# Altium integrated library Silicon Labs Clocks and Oscillators.IntLib: 678 symbols (part 5 of 45)
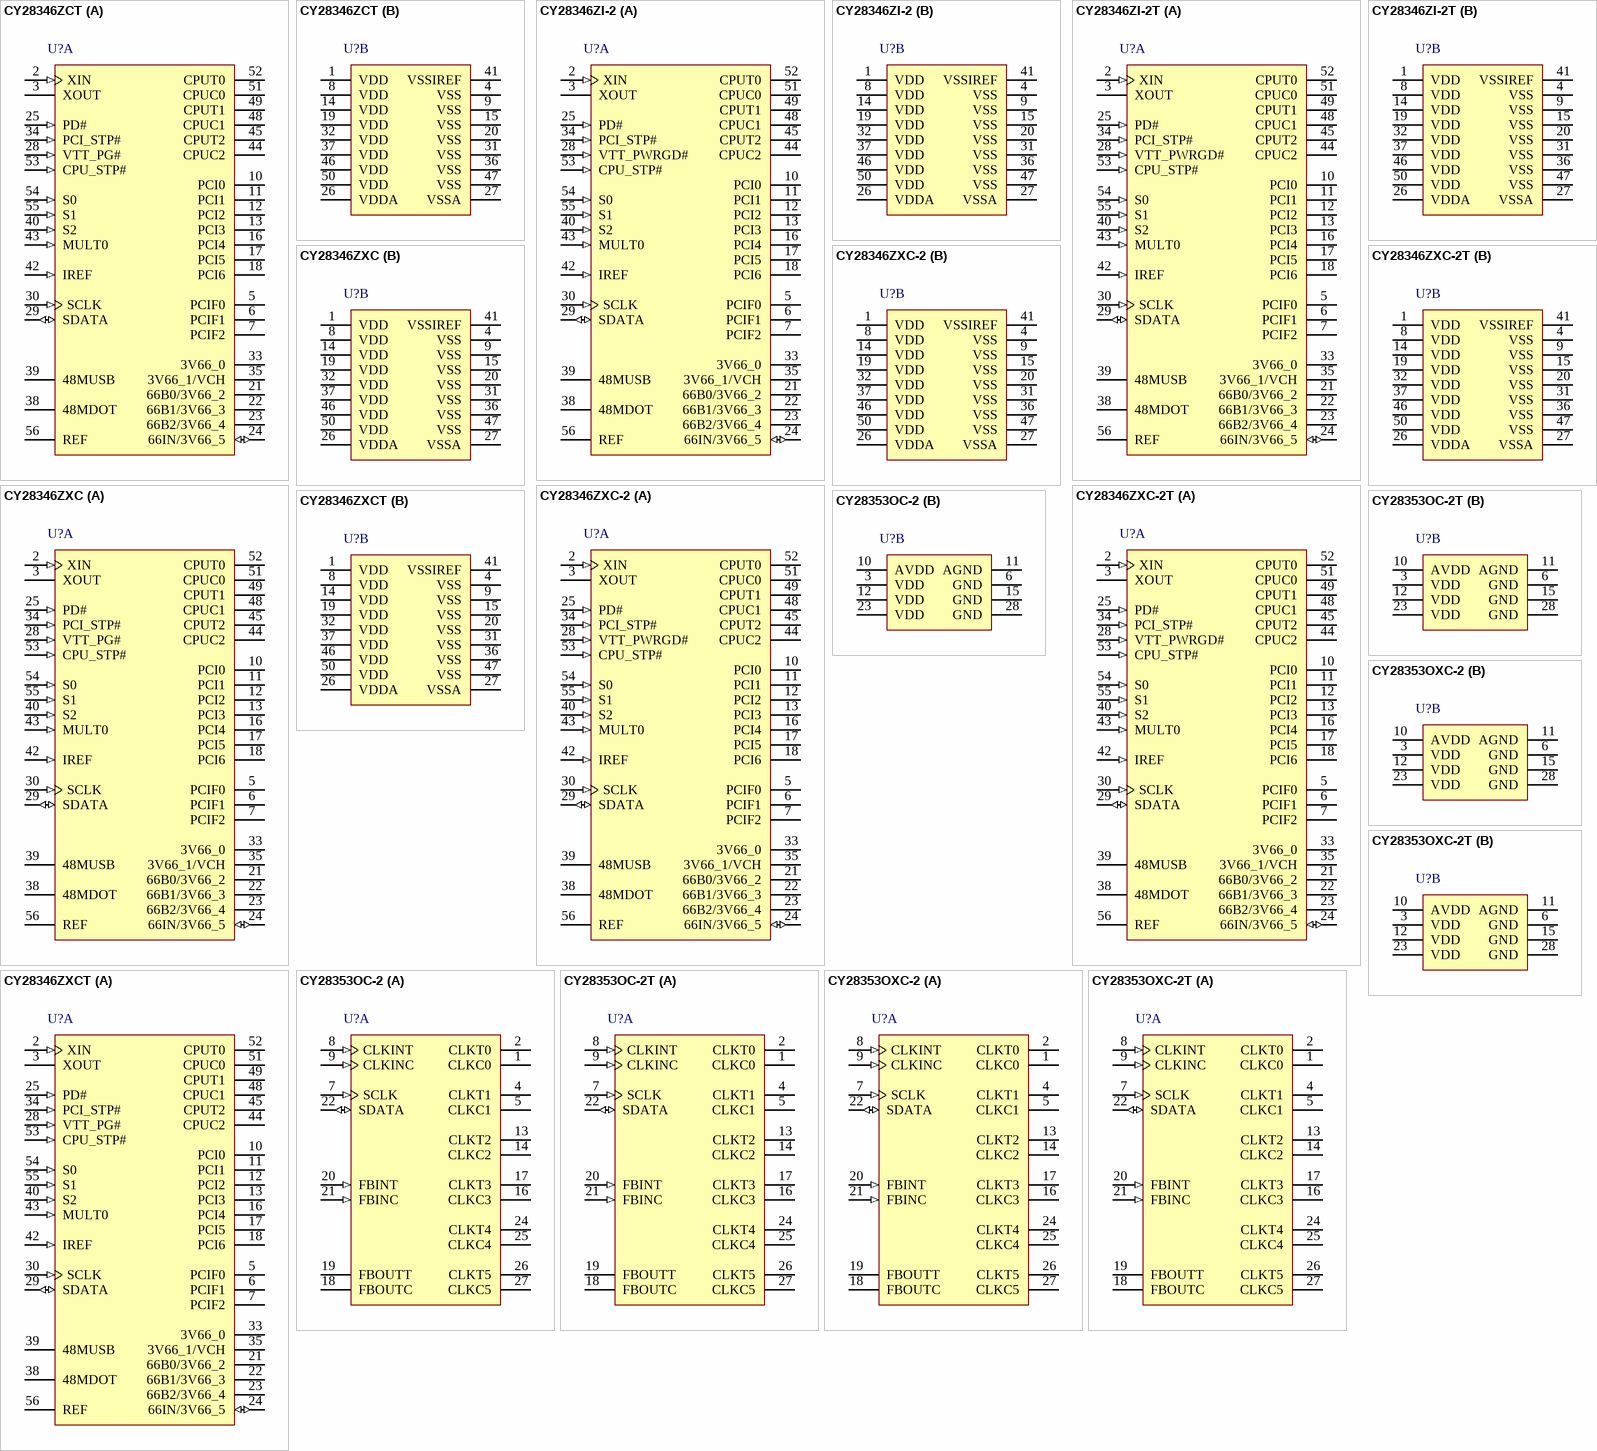
[diagram p48: symbols CY28346ZCT to CY28353OXC-2T]

## CY28353OC-2
designator U?
Differential Clock Buffer / Driver, 2.5 V, 60 to 170 MHz Output, 0 to 70 degC, 28-pin SOP; Manufacturer: Silicon Labs; PartNumber: CY28353OC-2; Output Format: HCSL; Reference Inputs: 2; VDD: 2.5 V; Sub-Family: Clock Generators; DatasheetVersion: Rev. *B; PackageReference: SSOP-28; PackageDescription: 28-Pin Shrink Small-Outline Package, Body 10.2 x 5.3 mm, Pitch 0.65 mm; Output Frequency (MHz): 60 to 170; Mounting Technology: Surface Mount; ComponentLink1Description: Manufacturer URL; ComponentLink1URL: http://www.silabs.com/; ComponentLink2Description: Datasheet; ComponentLink2URL: http://www.silabs.com/Support%20Documents/TechnicalDocs/CY28353-2.pdf; ComponentLink3Description: Package Specification; ComponentLink3URL: http://www.silabs.com/Support%20Documents/TechnicalDocs/W256.pdf
footprint SLAB-SSOP-28_N (SOP, 28-Leads, Body 10.4x5.6mm, Pitch 0.65mm, IPC Medium Density)
footprint SLAB-SSOP-28_L (SOP, 28-Leads, Body 10.4x5.6mm, Pitch 0.65mm, IPC High Density)
footprint SLAB-SSOP-28_M (SOP, 28-Leads, Body 10.4x5.6mm, Pitch 0.65mm, IPC Low Density)
part A pins: 1 CLKC0 (hiz) "Clock Outputs.", 2 CLKT0 (hiz) "Clock Outputs.", 4 CLKT1 (hiz) "Clock Outputs.", 5 CLKC1 (hiz) "Clock Outputs.", 7 SCLK (in) "Serial Clock Input.", 8 CLKINT (in) "Complementary Clock Input.", 9 CLKINC (in) "Complementary Clock Input.", 13 CLKT2 (hiz) "Clock Outputs.", 14 CLKC2 (hiz) "Clock Outputs.", 16 CLKC3 (hiz) "Clock Outputs.", 17 CLKT3 (hiz) "Clock Outputs.", 18 FBOUTC (hiz) "Feedback Clock Output.", 19 FBOUTT (hiz) "Feedback Clock Output.", 20 FBINT (in) "Feedback Clock Input. Connect to FBOUTT for accessing the PLL.", 21 FBINC (in) "Feedback Clock Input. Connect to FBOUTC for accessing the PLL.", 22 SDATA (io) "Serial Data Input.", 24 CLKT4 (hiz) "Clock Outputs.", 25 CLKC4 (hiz) "Clock Outputs.", 26 CLKT5 (hiz) "Clock Outputs.", 27 CLKC5 (hiz) "Clock Outputs."
part B pins: 3 VDD (power) "2.5V Power Supply for Logic.", 6 GND (power) "Ground.", 10 AVDD (power) "2.5V Power Supply for PLL.", 11 AGND (power) "Analog Ground for PLL.", 12 VDD (power) "2.5V Power Supply for Logic.", 15 GND (power) "Ground.", 23 VDD (power) "2.5V Power Supply for Logic.", 28 GND (power) "Ground."

## CY28353OC-2T
designator U?
Differential Clock Buffer / Driver, 2.5 V, 60 to 170 MHz Output, 0 to 70 degC, 28-pin SOP, Tape and Reel; Manufacturer: Silicon Labs; PartNumber: CY28353OC-2T; Output Format: HCSL; Phase Jitter (RMS): > 1 ps; Reference Inputs: 2; VDD: 2.5 V; Sub-Family: Clock Generators; DatasheetVersion: Rev. *B; PackageReference: SSOP-28; PackageDescription: 28-Pin Shrink Small-Outline Package, Body 10.2 x 5.3 mm, Pitch 0.65 mm; Output Frequency (MHz): 60 to 170; Packing: Tape and Reel; Mounting Technology: Surface Mount; ComponentLink1Description: Manufacturer URL; ComponentLink1URL: http://www.silabs.com/; ComponentLink2Description: Datasheet; ComponentLink2URL: http://www.silabs.com/Support%20Documents/TechnicalDocs/CY28353-2.pdf; ComponentLink3Description: Package Specification; ComponentLink3URL: http://www.silabs.com/Support%20Documents/TechnicalDocs/W256.pdf
footprint SLAB-SSOP-28_N (SOP, 28-Leads, Body 10.4x5.6mm, Pitch 0.65mm, IPC Medium Density)
footprint SLAB-SSOP-28_L (SOP, 28-Leads, Body 10.4x5.6mm, Pitch 0.65mm, IPC High Density)
footprint SLAB-SSOP-28_M (SOP, 28-Leads, Body 10.4x5.6mm, Pitch 0.65mm, IPC Low Density)
part A pins: 1 CLKC0 (hiz) "Clock Outputs.", 2 CLKT0 (hiz) "Clock Outputs.", 4 CLKT1 (hiz) "Clock Outputs.", 5 CLKC1 (hiz) "Clock Outputs.", 7 SCLK (in) "Serial Clock Input.", 8 CLKINT (in) "Complementary Clock Input.", 9 CLKINC (in) "Complementary Clock Input.", 13 CLKT2 (hiz) "Clock Outputs.", 14 CLKC2 (hiz) "Clock Outputs.", 16 CLKC3 (hiz) "Clock Outputs.", 17 CLKT3 (hiz) "Clock Outputs.", 18 FBOUTC (hiz) "Feedback Clock Output.", 19 FBOUTT (hiz) "Feedback Clock Output.", 20 FBINT (in) "Feedback Clock Input. Connect to FBOUTT for accessing the PLL.", 21 FBINC (in) "Feedback Clock Input. Connect to FBOUTC for accessing the PLL.", 22 SDATA (io) "Serial Data Input.", 24 CLKT4 (hiz) "Clock Outputs.", 25 CLKC4 (hiz) "Clock Outputs.", 26 CLKT5 (hiz) "Clock Outputs.", 27 CLKC5 (hiz) "Clock Outputs."
part B pins: 3 VDD (power) "2.5V Power Supply for Logic.", 6 GND (power) "Ground.", 10 AVDD (power) "2.5V Power Supply for PLL.", 11 AGND (power) "Analog Ground for PLL.", 12 VDD (power) "2.5V Power Supply for Logic.", 15 GND (power) "Ground.", 23 VDD (power) "2.5V Power Supply for Logic.", 28 GND (power) "Ground."

## CY28353OXC-2
designator U?
Differential Clock Buffer / Driver, 2.5 V, 60 to 170 MHz Output, 0 to 70 degC, 28-pin SOP; Manufacturer: Silicon Labs; PartNumber: CY28353OXC-2; Output Format: HCSL; Reference Inputs: 2; VDD: 2.5 V; Sub-Family: Clock Generators; DatasheetVersion: Rev. *B; PackageReference: SSOP-28; PackageDescription: 28-Pin Shrink Small-Outline Package, Body 10.2 x 5.3 mm, Pitch 0.65 mm; Supplier 1: Digi-Key; Supplier Part Number 1: CY28353OXC-2-ND; Supplier 2: Mouser; Supplier Part Number 2: 634-CY28353OXC-2; Output Frequency (MHz): 60 to 170; Mounting Technology: Surface Mount; ComponentLink1Description: Manufacturer URL; ComponentLink1URL: http://www.silabs.com/; ComponentLink2Description: Datasheet; ComponentLink2URL: http://www.silabs.com/Support%20Documents/TechnicalDocs/CY28353-2.pdf; ComponentLink3Description: Package Specification; ComponentLink3URL: http://www.silabs.com/Support%20Documents/TechnicalDocs/W256.pdf
footprint SLAB-SSOP-28_N (SOP, 28-Leads, Body 10.4x5.6mm, Pitch 0.65mm, IPC Medium Density)
footprint SLAB-SSOP-28_L (SOP, 28-Leads, Body 10.4x5.6mm, Pitch 0.65mm, IPC High Density)
footprint SLAB-SSOP-28_M (SOP, 28-Leads, Body 10.4x5.6mm, Pitch 0.65mm, IPC Low Density)
part A pins: 1 CLKC0 (hiz) "Clock Outputs.", 2 CLKT0 (hiz) "Clock Outputs.", 4 CLKT1 (hiz) "Clock Outputs.", 5 CLKC1 (hiz) "Clock Outputs.", 7 SCLK (in) "Serial Clock Input.", 8 CLKINT (in) "Complementary Clock Input.", 9 CLKINC (in) "Complementary Clock Input.", 13 CLKT2 (hiz) "Clock Outputs.", 14 CLKC2 (hiz) "Clock Outputs.", 16 CLKC3 (hiz) "Clock Outputs.", 17 CLKT3 (hiz) "Clock Outputs.", 18 FBOUTC (hiz) "Feedback Clock Output.", 19 FBOUTT (hiz) "Feedback Clock Output.", 20 FBINT (in) "Feedback Clock Input. Connect to FBOUTT for accessing the PLL.", 21 FBINC (in) "Feedback Clock Input. Connect to FBOUTC for accessing the PLL.", 22 SDATA (io) "Serial Data Input.", 24 CLKT4 (hiz) "Clock Outputs.", 25 CLKC4 (hiz) "Clock Outputs.", 26 CLKT5 (hiz) "Clock Outputs.", 27 CLKC5 (hiz) "Clock Outputs."
part B pins: 3 VDD (power) "2.5V Power Supply for Logic.", 6 GND (power) "Ground.", 10 AVDD (power) "2.5V Power Supply for PLL.", 11 AGND (power) "Analog Ground for PLL.", 12 VDD (power) "2.5V Power Supply for Logic.", 15 GND (power) "Ground.", 23 VDD (power) "2.5V Power Supply for Logic.", 28 GND (power) "Ground."

## CY28353OXC-2T
designator U?
Differential Clock Buffer / Driver, 2.5 V, 60 to 170 MHz Output, 0 to 70 degC, 28-pin SOP, Tape and Reel; Manufacturer: Silicon Labs; PartNumber: CY28353OXC-2T; Output Format: HCSL; Phase Jitter (RMS): > 1 ps; Reference Inputs: 2; VDD: 2.5 V; Sub-Family: Clock Generators; DatasheetVersion: Rev. *B; PackageReference: SSOP-28; PackageDescription: 28-Pin Shrink Small-Outline Package, Body 10.2 x 5.3 mm, Pitch 0.65 mm; Supplier 1: Digi-Key; Supplier Part Number 1: CY28353OXC-2T-ND; Supplier 2: Mouser; Supplier Part Number 2: 634-CY28353OXC-2T; Output Frequency (MHz): 60 to 170; Packing: Tape and Reel; Mounting Technology: Surface Mount; ComponentLink1Description: Manufacturer URL; ComponentLink1URL: http://www.silabs.com/; ComponentLink2Description: Datasheet; ComponentLink2URL: http://www.silabs.com/Support%20Documents/TechnicalDocs/CY28353-2.pdf; ComponentLink3Description: Package Specification; ComponentLink3URL: http://www.silabs.com/Support%20Documents/TechnicalDocs/W256.pdf
footprint SLAB-SSOP-28_N (SOP, 28-Leads, Body 10.4x5.6mm, Pitch 0.65mm, IPC Medium Density)
footprint SLAB-SSOP-28_L (SOP, 28-Leads, Body 10.4x5.6mm, Pitch 0.65mm, IPC High Density)
footprint SLAB-SSOP-28_M (SOP, 28-Leads, Body 10.4x5.6mm, Pitch 0.65mm, IPC Low Density)
part A pins: 1 CLKC0 (hiz) "Clock Outputs.", 2 CLKT0 (hiz) "Clock Outputs.", 4 CLKT1 (hiz) "Clock Outputs.", 5 CLKC1 (hiz) "Clock Outputs.", 7 SCLK (in) "Serial Clock Input.", 8 CLKINT (in) "Complementary Clock Input.", 9 CLKINC (in) "Complementary Clock Input.", 13 CLKT2 (hiz) "Clock Outputs.", 14 CLKC2 (hiz) "Clock Outputs.", 16 CLKC3 (hiz) "Clock Outputs.", 17 CLKT3 (hiz) "Clock Outputs.", 18 FBOUTC (hiz) "Feedback Clock Output.", 19 FBOUTT (hiz) "Feedback Clock Output.", 20 FBINT (in) "Feedback Clock Input. Connect to FBOUTT for accessing the PLL.", 21 FBINC (in) "Feedback Clock Input. Connect to FBOUTC for accessing the PLL.", 22 SDATA (io) "Serial Data Input.", 24 CLKT4 (hiz) "Clock Outputs.", 25 CLKC4 (hiz) "Clock Outputs.", 26 CLKT5 (hiz) "Clock Outputs.", 27 CLKC5 (hiz) "Clock Outputs."
part B pins: 3 VDD (power) "2.5V Power Supply for Logic.", 6 GND (power) "Ground.", 10 AVDD (power) "2.5V Power Supply for PLL.", 11 AGND (power) "Analog Ground for PLL.", 12 VDD (power) "2.5V Power Supply for Logic.", 15 GND (power) "Ground.", 23 VDD (power) "2.5V Power Supply for Logic.", 28 GND (power) "Ground."

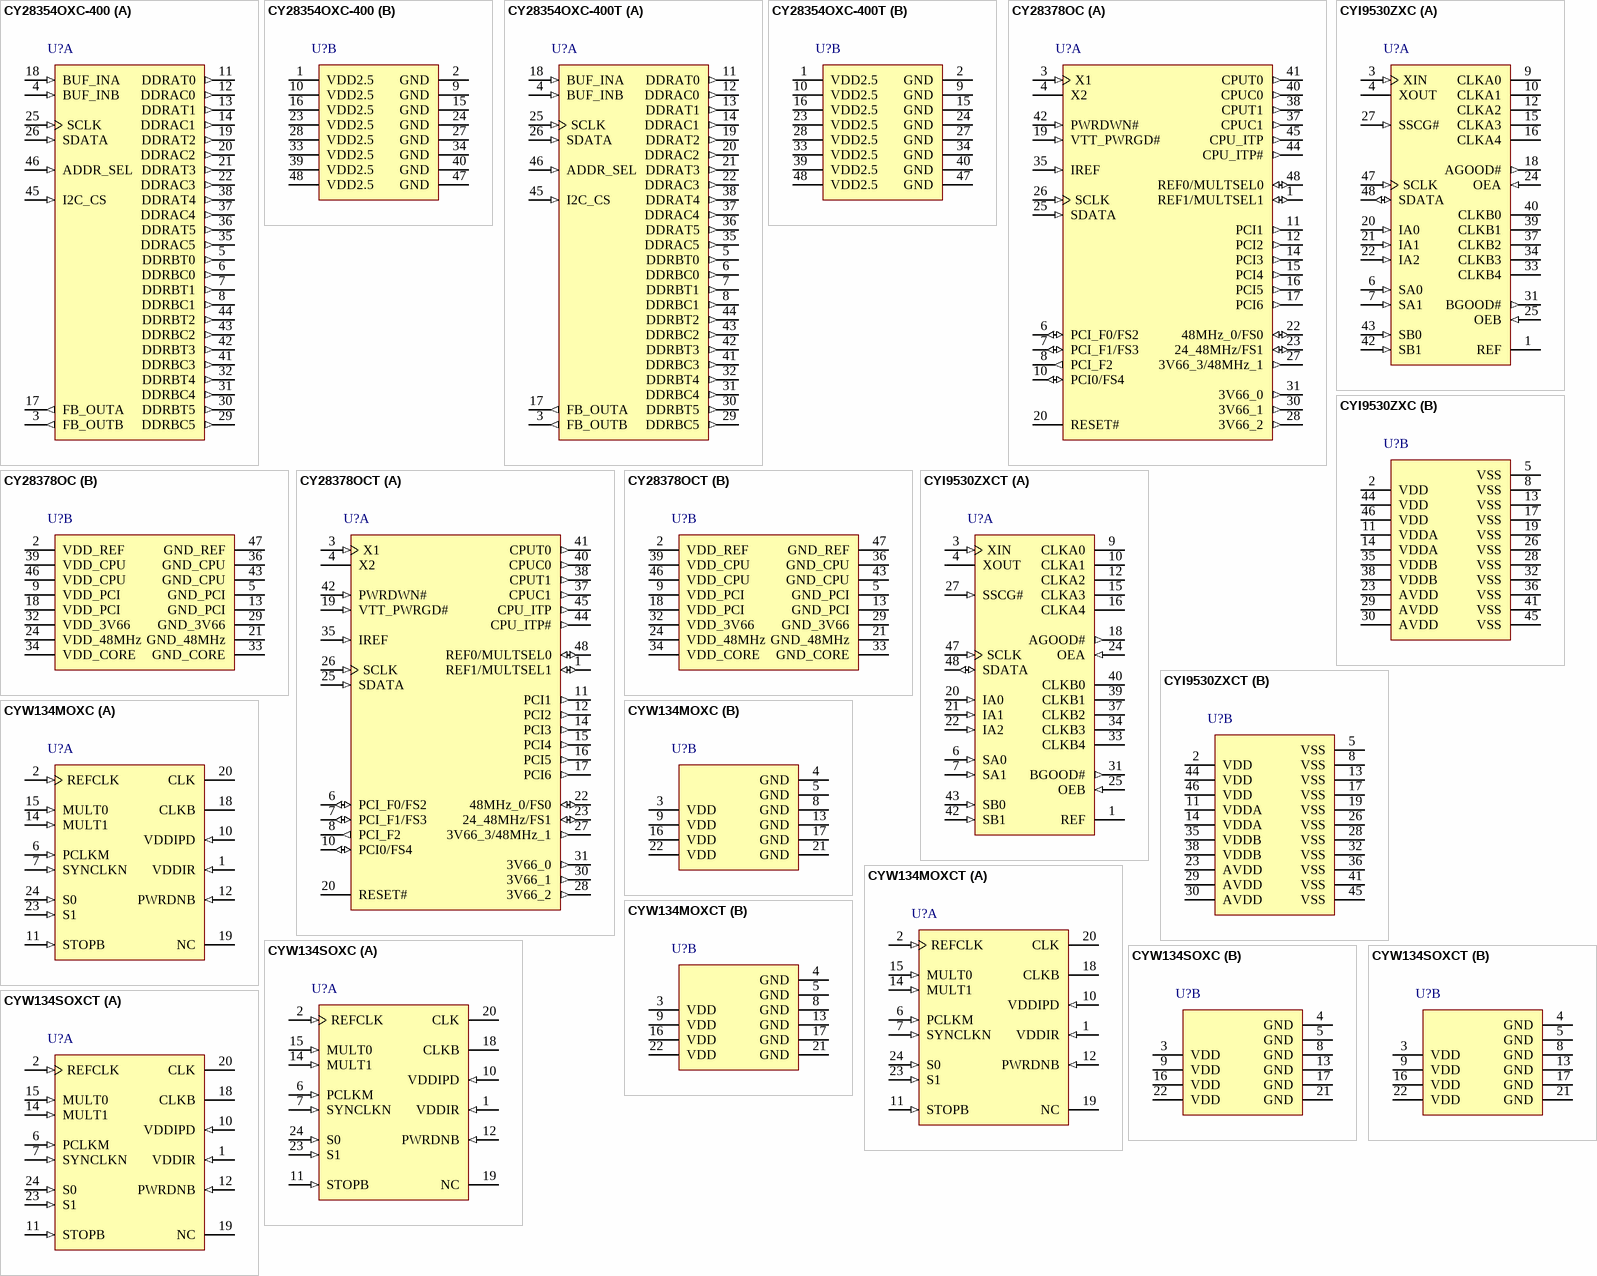
[diagram p5: symbols CY28354OXC-400 to CYW134SOXCT]

## CY28354OXC-400
designator U?
24 Output Buffer for 4-DDR DIMMS for VIA Chipsets Support, 2.5 V, 60 to 210 MHz Output, 0 to 85 degC, 48-pin SOP; Manufacturer: Silicon Labs; PartNumber: CY28354OXC-400; Output Format: HCSL; Reference Inputs: 2; VDD: 2.5 V; Sub-Family: Clock Generators; DatasheetVersion: Rev. *B; PackageReference: SSOP-48; PackageDescription: 48-Pin Shrink Small-Outline Package, Body 15.875 x 7.51 mm, Pitch 0.635 mm; Supplier 1: Digi-Key; Supplier Part Number 1: CY28354OXC-400-ND; Supplier 2: Mouser; Supplier Part Number 2: 634-CY28354OXC-400; Output Frequency (MHz): 60 to 210; Mounting Technology: Surface Mount; ComponentLink1Description: Manufacturer URL; ComponentLink1URL: http://www.silabs.com/; ComponentLink2Description: Datasheet; ComponentLink2URL: http://www.silabs.com/Support%20Documents/TechnicalDocs/CY28354-400.pdf; ComponentLink3Description: Package Specification; ComponentLink3URL: http://www.silabs.com/Support%20Documents/TechnicalDocs/W255.pdf
footprint SLAB-SSOP-48_N (SOP, 48-Leads, Body 16x7.6mm, Pitch 0.635mm, IPC Medium Density)
footprint SLAB-SSOP-48_L (SOP, 48-Leads, Body 16x7.6mm, Pitch 0.635mm, IPC High Density)
footprint SLAB-SSOP-48_M (SOP, 48-Leads, Body 16x7.6mm, Pitch 0.635mm, IPC Low Density)
part A pins: 3 FB_OUTB (out) "Feedback clock for chipset.", 4 BUF_INB (in) "Reference input from chipset. 2.5V input. Internal pull-down", 5 DDRBT0 (out) "Clock outputs. These outputs provide copies of BUF_INA and BUF_INB, respectively.", 6 DDRBC0 (out) "Clock outputs. These outputs provide complementary copies of BUF_INA and BUF_INB, respectively.", 7 DDRBT1 (out) "Clock outputs. These outputs provide copies of BUF_INA and BUF_INB, respectively.", 8 DDRBC1 (out) "Clock outputs. These outputs provide complementary copies of BUF_INA and BUF_INB, respectively.", 11 DDRAT0 (out) "Clock outputs. These outputs provide copies of BUF_INA and BUF_INB, respectively.", 12 DDRAC0 (out) "Clock outputs. These outputs provide complementary copies of BUF_INA and BUF_INB, respectively.", 13 DDRAT1 (out) "Clock outputs. These outputs provide copies of BUF_INA and BUF_INB, respectively.", 14 DDRAC1 (out) "Clock outputs. These outputs provide complementary copies of BUF_INA and BUF_INB, respectively.", 17 FB_OUTA (out) "Feedback clock for chipset.", 18 BUF_INA (in) "Reference input from chipset. 2.5V input. Internal pull-down", 19 DDRAT2 (out) "Clock outputs. These outputs provide copies of BUF_INA and BUF_INB, respectively.", 20 DDRAC2 (out) "Clock outputs. These outputs provide complementary copies of BUF_INA and BUF_INB, respectively.", 21 DDRAT3 (out) "Clock outputs. These outputs provide copies of BUF_INA and BUF_INB, respectively.", 22 DDRAC3 (out) "Clock outputs. These outputs provide complementary copies of BUF_INA and BUF_INB, respectively.", 25 SCLK (in) "SMBus clock input. Internal Pull-up", 26 SDATA (in) "SMBus data input. Internal Pull-up", 29 DDRBC5 (out) "Clock outputs. These outputs provide complementary copies of BUF_INA and BUF_INB, respectively.", 30 DDRBT5 (out) "Clock outputs. These outputs provide copies of BUF_INA and BUF_INB, respectively.", 31 DDRBC4 (out) "Clock outputs. These outputs provide complementary copies of BUF_INA and BUF_INB, respectively.", 32 DDRBT4 (out) "Clock outputs. These outputs provide copies of BUF_INA and BUF_INB, respectively.", 35 DDRAC5 (out) "Clock outputs. These outputs provide complementary copies of BUF_INA and BUF_INB, respectively.", 36 DDRAT5 (out) "Clock outputs. These outputs provide copies of BUF_INA and BUF_INB, respectively.", 37 DDRAC4 (out) "Clock outputs. These outputs provide complementary copies of BUF_INA and BUF_INB, respectively.", 38 DDRAT4 (out) "Clock outputs. These outputs provide copies of BUF_INA and BUF_INB, respectively.", 41 DDRBC3 (out) "Clock outputs. These outputs provide complementary copies of BUF_INA and BUF_INB, respectively.", 42 DDRBT3 (out) "Clock outputs. These outputs provide copies of BUF_INA and BUF_INB, respectively.", 43 DDRBC2 (out) "Clock outputs. These outputs provide complementary copies of BUF_INA and BUF_INB, respectively.", 44 DDRBT2 (out) "Clock outputs. These outputs provide copies of BUF_INA and BUF_INB, respectively.", 45 I2C_CS (in) "CS for I2C allows for multiple devices to be connected with the same I2C address. Internal pull-down. See Table 1.", 46 ADDR_SEL (in) "Selects I2C Address D2/DC. Internal Pull-down"
part B pins: 1 VDD2.5 (power) "2.5V voltage supply", 2 GND (power) "Ground", 9 GND (power) "Ground", 10 VDD2.5 (power) "2.5V voltage supply", 15 GND (power) "Ground", 16 VDD2.5 (power) "2.5V voltage supply", 23 VDD2.5 (power) "2.5V voltage supply", 24 GND (power) "Ground", 27 GND (power) "Ground", 28 VDD2.5 (power) "2.5V voltage supply", 33 VDD2.5 (power) "2.5V voltage supply", 34 GND (power) "Ground", 39 VDD2.5 (power) "2.5V voltage supply", 40 GND (power) "Ground", 47 GND (power) "Ground", 48 VDD2.5 (power) "2.5V voltage supply"

## CY28354OXC-400T
designator U?
24 Output Buffer for 4-DDR DIMMS for VIA Chipsets Support, 2.5 V, 60 to 210 MHz Output, 0 to 85 degC, 48-pin SOP, Tape and Reel; Manufacturer: Silicon Labs; PartNumber: CY28354OXC-400T; Output Format: HCSL; Phase Jitter (RMS): > 1 ps; Reference Inputs: 2; VDD: 2.5 V; Sub-Family: Clock Generators; DatasheetVersion: Rev. *B; PackageReference: SSOP-48; PackageDescription: 48-Pin Shrink Small-Outline Package, Body 15.875 x 7.51 mm, Pitch 0.635 mm; Supplier 1: Digi-Key; Supplier Part Number 1: CY28354OXC-400T-ND; Supplier 2: Mouser; Supplier Part Number 2: 634-CY28354OXC-400T; Output Frequency (MHz): 60 to 210; Packing: Tape and Reel; Mounting Technology: Surface Mount; ComponentLink1Description: Manufacturer URL; ComponentLink1URL: http://www.silabs.com/; ComponentLink2Description: Datasheet; ComponentLink2URL: http://www.silabs.com/Support%20Documents/TechnicalDocs/CY28354-400.pdf; ComponentLink3Description: Package Specification; ComponentLink3URL: http://www.silabs.com/Support%20Documents/TechnicalDocs/W255.pdf
footprint SLAB-SSOP-48_N (SOP, 48-Leads, Body 16x7.6mm, Pitch 0.635mm, IPC Medium Density)
footprint SLAB-SSOP-48_L (SOP, 48-Leads, Body 16x7.6mm, Pitch 0.635mm, IPC High Density)
footprint SLAB-SSOP-48_M (SOP, 48-Leads, Body 16x7.6mm, Pitch 0.635mm, IPC Low Density)
part A pins: 3 FB_OUTB (out) "Feedback clock for chipset.", 4 BUF_INB (in) "Reference input from chipset. 2.5V input. Internal pull-down", 5 DDRBT0 (out) "Clock outputs. These outputs provide copies of BUF_INA and BUF_INB, respectively.", 6 DDRBC0 (out) "Clock outputs. These outputs provide complementary copies of BUF_INA and BUF_INB, respectively.", 7 DDRBT1 (out) "Clock outputs. These outputs provide copies of BUF_INA and BUF_INB, respectively.", 8 DDRBC1 (out) "Clock outputs. These outputs provide complementary copies of BUF_INA and BUF_INB, respectively.", 11 DDRAT0 (out) "Clock outputs. These outputs provide copies of BUF_INA and BUF_INB, respectively.", 12 DDRAC0 (out) "Clock outputs. These outputs provide complementary copies of BUF_INA and BUF_INB, respectively.", 13 DDRAT1 (out) "Clock outputs. These outputs provide copies of BUF_INA and BUF_INB, respectively.", 14 DDRAC1 (out) "Clock outputs. These outputs provide complementary copies of BUF_INA and BUF_INB, respectively.", 17 FB_OUTA (out) "Feedback clock for chipset.", 18 BUF_INA (in) "Reference input from chipset. 2.5V input. Internal pull-down", 19 DDRAT2 (out) "Clock outputs. These outputs provide copies of BUF_INA and BUF_INB, respectively.", 20 DDRAC2 (out) "Clock outputs. These outputs provide complementary copies of BUF_INA and BUF_INB, respectively.", 21 DDRAT3 (out) "Clock outputs. These outputs provide copies of BUF_INA and BUF_INB, respectively.", 22 DDRAC3 (out) "Clock outputs. These outputs provide complementary copies of BUF_INA and BUF_INB, respectively.", 25 SCLK (in) "SMBus clock input. Internal Pull-up", 26 SDATA (in) "SMBus data input. Internal Pull-up", 29 DDRBC5 (out) "Clock outputs. These outputs provide complementary copies of BUF_INA and BUF_INB, respectively.", 30 DDRBT5 (out) "Clock outputs. These outputs provide copies of BUF_INA and BUF_INB, respectively.", 31 DDRBC4 (out) "Clock outputs. These outputs provide complementary copies of BUF_INA and BUF_INB, respectively.", 32 DDRBT4 (out) "Clock outputs. These outputs provide copies of BUF_INA and BUF_INB, respectively.", 35 DDRAC5 (out) "Clock outputs. These outputs provide complementary copies of BUF_INA and BUF_INB, respectively.", 36 DDRAT5 (out) "Clock outputs. These outputs provide copies of BUF_INA and BUF_INB, respectively.", 37 DDRAC4 (out) "Clock outputs. These outputs provide complementary copies of BUF_INA and BUF_INB, respectively.", 38 DDRAT4 (out) "Clock outputs. These outputs provide copies of BUF_INA and BUF_INB, respectively.", 41 DDRBC3 (out) "Clock outputs. These outputs provide complementary copies of BUF_INA and BUF_INB, respectively.", 42 DDRBT3 (out) "Clock outputs. These outputs provide copies of BUF_INA and BUF_INB, respectively.", 43 DDRBC2 (out) "Clock outputs. These outputs provide complementary copies of BUF_INA and BUF_INB, respectively.", 44 DDRBT2 (out) "Clock outputs. These outputs provide copies of BUF_INA and BUF_INB, respectively.", 45 I2C_CS (in) "CS for I2C allows for multiple devices to be connected with the same I2C address. Internal pull-down. See Table 1.", 46 ADDR_SEL (in) "Selects I2C Address D2/DC. Internal Pull-down"
part B pins: 1 VDD2.5 (power) "2.5V voltage supply", 2 GND (power) "Ground", 9 GND (power) "Ground", 10 VDD2.5 (power) "2.5V voltage supply", 15 GND (power) "Ground", 16 VDD2.5 (power) "2.5V voltage supply", 23 VDD2.5 (power) "2.5V voltage supply", 24 GND (power) "Ground", 27 GND (power) "Ground", 28 VDD2.5 (power) "2.5V voltage supply", 33 VDD2.5 (power) "2.5V voltage supply", 34 GND (power) "Ground", 39 VDD2.5 (power) "2.5V voltage supply", 40 GND (power) "Ground", 47 GND (power) "Ground", 48 VDD2.5 (power) "2.5V voltage supply"

## CY28378OC
designator U?
FTG for Pentium 4(R) and Intel(R) 845 Series Chipset, 3.3 V, 200 MHz Max Output, 0 to 70 degC, 48-pin SOP; Manufacturer: Silicon Labs; PartNumber: CY28378OC; Output Format: LVCMOS; HCSL; Output Frequency (MHz): 14.318; 24; 31.4 to 41; 48; 66.6 to 82; 100 to 200; Reference Inputs: 1; VDD: 3.3 V; Sub-Family: Clock Generators; DatasheetVersion: Rev. **; PackageReference: SSOP-48; PackageDescription: 48-Pin Shrink Small-Outline Package, Body 15.875 x 7.51 mm, Pitch 0.635 mm; Mounting Technology: Surface Mount; ComponentLink1Description: Manufacturer URL; ComponentLink1URL: http://www.silabs.com/; ComponentLink2Description: Datasheet; ComponentLink2URL: http://www.silabs.com/Support%20Documents/TechnicalDocs/CY28378.pdf; ComponentLink3Description: Package Specification; ComponentLink3URL: http://www.silabs.com/Support%20Documents/TechnicalDocs/W255.pdf
footprint SLAB-SSOP-48_N (SOP, 48-Leads, Body 16x7.6mm, Pitch 0.635mm, IPC Medium Density)
footprint SLAB-SSOP-48_L (SOP, 48-Leads, Body 16x7.6mm, Pitch 0.635mm, IPC High Density)
footprint SLAB-SSOP-48_M (SOP, 48-Leads, Body 16x7.6mm, Pitch 0.635mm, IPC Low Density)
part A pins: 1 REF1/MULTSEL1 (io), 3 X1 (in) "Crystal Connection or External Reference Frequency Input: This pin has dual functions. It can be used as an external 14.318-MHz crystal connection or as an external reference frequency input.", 4 X2 "Crystal Connection: Connection for an external 14.318-MHz crystal. If using an external reference, this pin must be left unconnected.", 6 PCI_F0/FS2 (io), 7 PCI_F1/FS3 (io), 8 PCI_F2 (out) "Free-running PCI Output 2: 3.3V free-running PCI output.", 10 PCI0/FS4 (io), 11 PCI1 (out) "PCI Clock Output 1 to 6: 3.3V PCI clock outputs.", 12 PCI2 (out) "PCI Clock Output 1 to 6: 3.3V PCI clock outputs.", 14 PCI3 (out) "PCI Clock Output 1 to 6: 3.3V PCI clock outputs.", 15 PCI4 (out) "PCI Clock Output 1 to 6: 3.3V PCI clock outputs.", 16 PCI5 (out) "PCI Clock Output 1 to 6: 3.3V PCI clock outputs.", 17 PCI6 (out) "PCI Clock Output 1 to 6: 3.3V PCI clock outputs.", 19 VTT_PWRGD# (in) "Powergood from Voltage Regulator Module (VRM): 3.3V LVTTL input. VTT_PWRGD# is a level sensitive strobe used to determine when FS0:4 and MULTSEL0:1 inputs are valid and OK to be sampled (Active LOW). Once VTT_PWRGD# is (See Datasheet)", 20 RESET# (oc) "System Reset Output: Open-drain system reset output.", 22 48MHz_0/FS0 (io), 23 24_48MHz/FS1 (io), 25 SDATA (in) "SMBus Data Input: Data pin for serial interface.", 26 SCLK (in) "SMBus Clock Input: Clock pin for serial interface.", 27 3V66_3/48MHz_1 (out), 28 3V66_2 (out) "66MHz Clock Outputs: 3.3V fixed 66-MHz clock.", 30 3V66_1 (out) "66MHz Clock Outputs: 3.3V fixed 66-MHz clock.", 31 3V66_0 (out) "66MHz Clock Outputs: 3.3V fixed 66-MHz clock.", 35 IREF (in) "Current Reference for CPU Output: A precision resistor is attached to this pin which is connected to the internal current reference.", 37 CPUC1 (out) "CPU Clock Outputs: Frequency is set by the FS0:4 inputs or through serial input interface.", 38 CPUT1 (out) "CPU Clock Outputs: Frequency is set by the FS0:4 inputs or through serial input interface.", 40 CPUC0 (out) "CPU Clock Outputs: Frequency is set by the FS0:4 inputs or through serial input interface.", 41 CPUT0 (out) "CPU Clock Outputs: Frequency is set by the FS0:4 inputs or through serial input interface.", 42 PWRDWN# (in) "Power Down Control: 3.3V LVTTL compatible input that places the device in power down mode when held low. 150k internal pull up.", 44 CPU_ITP# (out) "CPU Clock Output for ITP: Frequency is set by the FS0:4 inputs or through serial input interface.", 45 CPU_ITP (out) "CPU Clock Output for ITP: Frequency is set by the FS0:4 inputs or through serial input interface.", 48 REF0/MULTSEL0 (io)
part B pins: 2 VDD_REF (power) "3.3V Power Connection: Power supply for CPU outputs buffers, 3V66 output buffers, PCI output buffers, reference output buffers and 48-MHz output buffers. Connect to 3.3V.", 5 GND_PCI (power) "Ground Connection: Connect all ground pins to the common system ground plane.", 9 VDD_PCI (power) "3.3V Power Connection: Power supply for CPU outputs buffers, 3V66 output buffers, PCI output buffers, reference output buffers and 48-MHz output buffers. Connect to 3.3V.", 13 GND_PCI (power) "Ground Connection: Connect all ground pins to the common system ground plane.", 18 VDD_PCI (power) "3.3V Power Connection: Power supply for CPU outputs buffers, 3V66 output buffers, PCI output buffers, reference output buffers and 48-MHz output buffers. Connect to 3.3V.", 21 GND_48MHz (power) "Ground Connection: Connect all ground pins to the common system ground plane.", 24 VDD_48MHz (power) "3.3V Power Connection: Power supply for CPU outputs buffers, 3V66 output buffers, PCI output buffers, reference output buffers and 48-MHz output buffers. Connect to 3.3V.", 29 GND_3V66 (power) "Ground Connection: Connect all ground pins to the common system ground plane.", 32 VDD_3V66 (power) "3.3V Power Connection: Power supply for CPU outputs buffers, 3V66 output buffers, PCI output buffers, reference output buffers and 48-MHz output buffers. Connect to 3.3V.", 33 GND_CORE (power) "Analog Ground Connection: Ground for core logic, PLL circuitry.", 34 VDD_CORE (power) "3.3V Analog Power Connection: Power supply for core logic, PLL circuitry. Connect to 3.3V.", 36 GND_CPU (power) "Ground Connection: Connect all ground pins to the common system ground plane.", 39 VDD_CPU (power) "3.3V Power Connection: Power supply for CPU outputs buffers, 3V66 output buffers, PCI output buffers, reference output buffers and 48-MHz output buffers. Connect to 3.3V.", 43 GND_CPU (power) "Ground Connection: Connect all ground pins to the common system ground plane.", 46 VDD_CPU (power) "3.3V Power Connection: Power supply for CPU outputs buffers, 3V66 output buffers, PCI output buffers, reference output buffers and 48-MHz output buffers. Connect to 3.3V.", 47 GND_REF (power) "Ground Connection: Connect all ground pins to the common system ground plane."

## CY28378OCT
designator U?
FTG for Pentium 4(R) and Intel(R) 845 Series Chipset, 3.3 V, 200 MHz Max Output, 0 to 70 degC, 48-pin SOP, Tape and Reel; Manufacturer: Silicon Labs; PartNumber: CY28378OCT; Output Format: LVCMOS; HCSL; Output Frequency (MHz): 14.318; 24; 31.4 to 41; 48; 66.6 to 82; 100 to 200; Phase Jitter (RMS): > 1 ps; Reference Inputs: 1; VDD: 3.3 V; Sub-Family: Clock Generators; DatasheetVersion: Rev. **; PackageReference: SSOP-48; PackageDescription: 48-Pin Shrink Small-Outline Package, Body 15.875 x 7.51 mm, Pitch 0.635 mm; Packing: Tape and Reel; Mounting Technology: Surface Mount; ComponentLink1Description: Manufacturer URL; ComponentLink1URL: http://www.silabs.com/; ComponentLink2Description: Datasheet; ComponentLink2URL: http://www.silabs.com/Support%20Documents/TechnicalDocs/CY28378.pdf; ComponentLink3Description: Package Specification; ComponentLink3URL: http://www.silabs.com/Support%20Documents/TechnicalDocs/W255.pdf
footprint SLAB-SSOP-48_N (SOP, 48-Leads, Body 16x7.6mm, Pitch 0.635mm, IPC Medium Density)
footprint SLAB-SSOP-48_L (SOP, 48-Leads, Body 16x7.6mm, Pitch 0.635mm, IPC High Density)
footprint SLAB-SSOP-48_M (SOP, 48-Leads, Body 16x7.6mm, Pitch 0.635mm, IPC Low Density)
part A pins: 1 REF1/MULTSEL1 (io), 3 X1 (in) "Crystal Connection or External Reference Frequency Input: This pin has dual functions. It can be used as an external 14.318-MHz crystal connection or as an external reference frequency input.", 4 X2 "Crystal Connection: Connection for an external 14.318-MHz crystal. If using an external reference, this pin must be left unconnected.", 6 PCI_F0/FS2 (io), 7 PCI_F1/FS3 (io), 8 PCI_F2 (out) "Free-running PCI Output 2: 3.3V free-running PCI output.", 10 PCI0/FS4 (io), 11 PCI1 (out) "PCI Clock Output 1 to 6: 3.3V PCI clock outputs.", 12 PCI2 (out) "PCI Clock Output 1 to 6: 3.3V PCI clock outputs.", 14 PCI3 (out) "PCI Clock Output 1 to 6: 3.3V PCI clock outputs.", 15 PCI4 (out) "PCI Clock Output 1 to 6: 3.3V PCI clock outputs.", 16 PCI5 (out) "PCI Clock Output 1 to 6: 3.3V PCI clock outputs.", 17 PCI6 (out) "PCI Clock Output 1 to 6: 3.3V PCI clock outputs.", 19 VTT_PWRGD# (in) "Powergood from Voltage Regulator Module (VRM): 3.3V LVTTL input. VTT_PWRGD# is a level sensitive strobe used to determine when FS0:4 and MULTSEL0:1 inputs are valid and OK to be sampled (Active LOW). Once VTT_PWRGD# is (See Datasheet)", 20 RESET# (oc) "System Reset Output: Open-drain system reset output.", 22 48MHz_0/FS0 (io), 23 24_48MHz/FS1 (io), 25 SDATA (in) "SMBus Data Input: Data pin for serial interface.", 26 SCLK (in) "SMBus Clock Input: Clock pin for serial interface.", 27 3V66_3/48MHz_1 (out), 28 3V66_2 (out) "66MHz Clock Outputs: 3.3V fixed 66-MHz clock.", 30 3V66_1 (out) "66MHz Clock Outputs: 3.3V fixed 66-MHz clock.", 31 3V66_0 (out) "66MHz Clock Outputs: 3.3V fixed 66-MHz clock.", 35 IREF (in) "Current Reference for CPU Output: A precision resistor is attached to this pin which is connected to the internal current reference.", 37 CPUC1 (out) "CPU Clock Outputs: Frequency is set by the FS0:4 inputs or through serial input interface.", 38 CPUT1 (out) "CPU Clock Outputs: Frequency is set by the FS0:4 inputs or through serial input interface.", 40 CPUC0 (out) "CPU Clock Outputs: Frequency is set by the FS0:4 inputs or through serial input interface.", 41 CPUT0 (out) "CPU Clock Outputs: Frequency is set by the FS0:4 inputs or through serial input interface.", 42 PWRDWN# (in) "Power Down Control: 3.3V LVTTL compatible input that places the device in power down mode when held low. 150k internal pull up.", 44 CPU_ITP# (out) "CPU Clock Output for ITP: Frequency is set by the FS0:4 inputs or through serial input interface.", 45 CPU_ITP (out) "CPU Clock Output for ITP: Frequency is set by the FS0:4 inputs or through serial input interface.", 48 REF0/MULTSEL0 (io)
part B pins: 2 VDD_REF (power) "3.3V Power Connection: Power supply for CPU outputs buffers, 3V66 output buffers, PCI output buffers, reference output buffers and 48-MHz output buffers. Connect to 3.3V.", 5 GND_PCI (power) "Ground Connection: Connect all ground pins to the common system ground plane.", 9 VDD_PCI (power) "3.3V Power Connection: Power supply for CPU outputs buffers, 3V66 output buffers, PCI output buffers, reference output buffers and 48-MHz output buffers. Connect to 3.3V.", 13 GND_PCI (power) "Ground Connection: Connect all ground pins to the common system ground plane.", 18 VDD_PCI (power) "3.3V Power Connection: Power supply for CPU outputs buffers, 3V66 output buffers, PCI output buffers, reference output buffers and 48-MHz output buffers. Connect to 3.3V.", 21 GND_48MHz (power) "Ground Connection: Connect all ground pins to the common system ground plane.", 24 VDD_48MHz (power) "3.3V Power Connection: Power supply for CPU outputs buffers, 3V66 output buffers, PCI output buffers, reference output buffers and 48-MHz output buffers. Connect to 3.3V.", 29 GND_3V66 (power) "Ground Connection: Connect all ground pins to the common system ground plane.", 32 VDD_3V66 (power) "3.3V Power Connection: Power supply for CPU outputs buffers, 3V66 output buffers, PCI output buffers, reference output buffers and 48-MHz output buffers. Connect to 3.3V.", 33 GND_CORE (power) "Analog Ground Connection: Ground for core logic, PLL circuitry.", 34 VDD_CORE (power) "3.3V Analog Power Connection: Power supply for core logic, PLL circuitry. Connect to 3.3V.", 36 GND_CPU (power) "Ground Connection: Connect all ground pins to the common system ground plane.", 39 VDD_CPU (power) "3.3V Power Connection: Power supply for CPU outputs buffers, 3V66 output buffers, PCI output buffers, reference output buffers and 48-MHz output buffers. Connect to 3.3V.", 43 GND_CPU (power) "Ground Connection: Connect all ground pins to the common system ground plane.", 46 VDD_CPU (power) "3.3V Power Connection: Power supply for CPU outputs buffers, 3V66 output buffers, PCI output buffers, reference output buffers and 48-MHz output buffers. Connect to 3.3V.", 47 GND_REF (power) "Ground Connection: Connect all ground pins to the common system ground plane."

## CYI9530ZXC
designator U?
PCIX I/O System Clock Generator with EMI Control Features, 3.3 V, 25 to 133.3 MHz Output, 0 to 70 degC, 48-pin SOP; Manufacturer: Silicon Labs; PartNumber: CYI9530ZXC; Output Format: LVCMOS; Reference Inputs: 1; VDD: 3.3 V; Sub-Family: Clock Generators; DatasheetVersion: Rev. *C; PackageReference: TSSOP-48; PackageDescription: 48-Pin Thin Shrink Small-Outline Package, Body 12.5 x 6.1 mm, Pitch 0.5 mm; Supplier 1: Digi-Key; Supplier Part Number 1: CYI9530ZXC-ND; Supplier 2: Mouser; Supplier Part Number 2: 634-CYI9530ZXC; Output Frequency (MHz): 25 to 133.3; Mounting Technology: Surface Mount; Code_JEDEC: MO-153; ComponentLink1Description: Manufacturer URL; ComponentLink1URL: http://www.silabs.com/; ComponentLink2Description: Datasheet; ComponentLink2URL: http://www.silabs.com/Support%20Documents/TechnicalDocs/C9530.pdf; ComponentLink3Description: Package Specification; ComponentLink3URL: http://www.silabs.com/Support%20Documents/TechnicalDocs/C9530.pdf
footprint SLAB-TSSOP-48_N (SOP, 48-Leads, Body 12.6x6.2mm, Pitch 0.5mm, IPC Medium Density)
footprint SLAB-TSSOP-48_L (SOP, 48-Leads, Body 12.6x6.2mm, Pitch 0.5mm, IPC High Density)
footprint SLAB-TSSOP-48_M (SOP, 48-Leads, Body 12.6x6.2mm, Pitch 0.5mm, IPC Low Density)
part A pins: 1 REF (hiz) "Buffered inverted outputs of the signal applied at Xin, typically 33.33 or 25.0 MHz", 3 XIN (in) "Crystal Buffer input pin. Connects to a crystal, or an external clock source. Serves as input clock TCLK, in Test mode.", 4 XOUT "Crystal Buffer output pin. Connects to a crystal only. When a Can Oscillator is used or in Test mode, this pin is kept unconnected.", 6 SA0 (in) "Clock Bank A selection bits. These control the clock frequency that will be present on the outputs of the A bank of buffers. See Table 1 for frequency codes and selection values.", 7 SA1 (in) "Clock Bank A selection bits. These control the clock frequency that will be present on the outputs of the A bank of buffers. See Table 1 for frequency codes and selection values.", 9 CLKA0 (hiz) "A bank of five XINx1, XINx2, XINx3 and XINx4 output clocks.", 10 CLKA1 (hiz) "A bank of five XINx1, XINx2, XINx3 and XINx4 output clocks.", 12 CLKA2 (hiz) "A bank of five XINx1, XINx2, XINx3 and XINx4 output clocks.", 15 CLKA3 (hiz) "A bank of five XINx1, XINx2, XINx3 and XINx4 output clocks.", 16 CLKA4 (hiz) "A bank of five XINx1, XINx2, XINx3 and XINx4 output clocks.", 18 AGOOD# (out) "When this output signal is a logic low level, it indicates that the output clocks of the A bank are locked to the input reference clock. This output is latched.", 20 IA0 (in), 21 IA1 (in), 22 IA2 (in), 24 OEA (in) "Output Enable for clock bank A. Causes the CLKA output clocks to be in a three-state condition when driven to a logic low level.", 25 OEB (in) "Output Enable for clock bank B. Causes the CLKB output clocks to be in a three-state condition when driven to a logic low level.", 27 SSCG# (in) "Enables Spread Spectrum clock modulation when at a logic low level, see Spread Spectrum Clocking on page 6.", 31 BGOOD# (out) "When this output signal is at a logic low level, it indicates that the output clocks of the B bank are locked to the input reference clock. This output is latched.", 33 CLKB4 (hiz) "A bank of five XINx1, XINx2, XINx3 and XINx4 output clocks.", 34 CLKB3 (hiz) "A bank of five XINx1, XINx2, XINx3 and XINx4 output clocks.", 37 CLKB2 (hiz) "A bank of five XINx1, XINx2, XINx3 and XINx4 output clocks.", 39 CLKB1 (hiz) "A bank of five XINx1, XINx2, XINx3 and XINx4 output clocks.", 40 CLKB0 (hiz) "A bank of five XINx1, XINx2, XINx3 and XINx4 output clocks.", 42 SB1 (in), 43 SB0 (in), 47 SCLK (in) "Clock for the internal SMBus circuitry.", 48 SDATA (io) "Data for the internal SMBus circuitry."
part B pins: 2 VDD (power) "Power supply for internal Core logic.", 5 VSS (power) "Ground pins for the device.", 8 VSS (power) "Ground pins for the device.", 11 VDDA (power) "3.3V common power supply pin for Bank A PCI clocks CLKA.", 13 VSS (power) "Ground pins for the device.", 14 VDDA (power) "3.3V common power supply pin for Bank A PCI clocks CLKA.", 17 VSS (power) "Ground pins for the device.", 19 VSS (power) "Ground pins for the device.", 23 AVDD (power) "Power for internal analog circuitry. This supply should have a separately decoupled current source from VDD.", 26 VSS (power) "Ground pins for the device.", 28 VSS (power) "Ground pins for the device.", 29 AVDD (power) "Power for internal analog circuitry. This supply should have a separately decoupled current source from VDD.", 30 AVDD (power) "Power for internal analog circuitry. This supply should have a separately decoupled current source from VDD.", 32 VSS (power) "Ground pins for the device.", 35 VDDB (power) "3.3V common power supply pin for Bank B PCI clocks CLKB.", 36 VSS (power) "Ground pins for the device.", 38 VDDB (power) "3.3V common power supply pin for Bank B PCI clocks CLKB.", 41 VSS (power) "Ground pins for the device.", 44 VDD (power) "Power supply for internal Core logic.", 45 VSS (power) "Ground pins for the device.", 46 VDD (power) "Power supply for internal Core logic."

## CYI9530ZXCT
designator U?
PCIX I/O System Clock Generator with EMI Control Features, 3.3 V, 25 to 133.3 MHz Output, 0 to 70 degC, 48-pin SOP, Tape and Reel; Manufacturer: Silicon Labs; PartNumber: CYI9530ZXCT; Output Format: LVCMOS; Phase Jitter (RMS): > 1 ps; Reference Inputs: 1; VDD: 3.3 V; Sub-Family: Clock Generators; DatasheetVersion: Rev. *C; PackageReference: TSSOP-48; PackageDescription: 48-Pin Thin Shrink Small-Outline Package, Body 12.5 x 6.1 mm, Pitch 0.5 mm; Supplier 1: Digi-Key; Supplier Part Number 1: CYI9530ZXCT-ND; Supplier 2: Mouser; Supplier Part Number 2: 634-CYI9530ZXCT; Output Frequency (MHz): 25 to 133.3; Packing: Tape and Reel; Mounting Technology: Surface Mount; Code_JEDEC: MO-153; ComponentLink1Description: Manufacturer URL; ComponentLink1URL: http://www.silabs.com/; ComponentLink2Description: Datasheet; ComponentLink2URL: http://www.silabs.com/Support%20Documents/TechnicalDocs/C9530.pdf; ComponentLink3Description: Package Specification; ComponentLink3URL: http://www.silabs.com/Support%20Documents/TechnicalDocs/C9530.pdf
footprint SLAB-TSSOP-48_N (SOP, 48-Leads, Body 12.6x6.2mm, Pitch 0.5mm, IPC Medium Density)
footprint SLAB-TSSOP-48_L (SOP, 48-Leads, Body 12.6x6.2mm, Pitch 0.5mm, IPC High Density)
footprint SLAB-TSSOP-48_M (SOP, 48-Leads, Body 12.6x6.2mm, Pitch 0.5mm, IPC Low Density)
part A pins: 1 REF (hiz) "Buffered inverted outputs of the signal applied at Xin, typically 33.33 or 25.0 MHz", 3 XIN (in) "Crystal Buffer input pin. Connects to a crystal, or an external clock source. Serves as input clock TCLK, in Test mode.", 4 XOUT "Crystal Buffer output pin. Connects to a crystal only. When a Can Oscillator is used or in Test mode, this pin is kept unconnected.", 6 SA0 (in) "Clock Bank A selection bits. These control the clock frequency that will be present on the outputs of the A bank of buffers. See Table 1 for frequency codes and selection values.", 7 SA1 (in) "Clock Bank A selection bits. These control the clock frequency that will be present on the outputs of the A bank of buffers. See Table 1 for frequency codes and selection values.", 9 CLKA0 (hiz) "A bank of five XINx1, XINx2, XINx3 and XINx4 output clocks.", 10 CLKA1 (hiz) "A bank of five XINx1, XINx2, XINx3 and XINx4 output clocks.", 12 CLKA2 (hiz) "A bank of five XINx1, XINx2, XINx3 and XINx4 output clocks.", 15 CLKA3 (hiz) "A bank of five XINx1, XINx2, XINx3 and XINx4 output clocks.", 16 CLKA4 (hiz) "A bank of five XINx1, XINx2, XINx3 and XINx4 output clocks.", 18 AGOOD# (out) "When this output signal is a logic low level, it indicates that the output clocks of the A bank are locked to the input reference clock. This output is latched.", 20 IA0 (in), 21 IA1 (in), 22 IA2 (in), 24 OEA (in) "Output Enable for clock bank A. Causes the CLKA output clocks to be in a three-state condition when driven to a logic low level.", 25 OEB (in) "Output Enable for clock bank B. Causes the CLKB output clocks to be in a three-state condition when driven to a logic low level.", 27 SSCG# (in) "Enables Spread Spectrum clock modulation when at a logic low level, see Spread Spectrum Clocking on page 6.", 31 BGOOD# (out) "When this output signal is at a logic low level, it indicates that the output clocks of the B bank are locked to the input reference clock. This output is latched.", 33 CLKB4 (hiz) "A bank of five XINx1, XINx2, XINx3 and XINx4 output clocks.", 34 CLKB3 (hiz) "A bank of five XINx1, XINx2, XINx3 and XINx4 output clocks.", 37 CLKB2 (hiz) "A bank of five XINx1, XINx2, XINx3 and XINx4 output clocks.", 39 CLKB1 (hiz) "A bank of five XINx1, XINx2, XINx3 and XINx4 output clocks.", 40 CLKB0 (hiz) "A bank of five XINx1, XINx2, XINx3 and XINx4 output clocks.", 42 SB1 (in), 43 SB0 (in), 47 SCLK (in) "Clock for the internal SMBus circuitry.", 48 SDATA (io) "Data for the internal SMBus circuitry."
part B pins: 2 VDD (power) "Power supply for internal Core logic.", 5 VSS (power) "Ground pins for the device.", 8 VSS (power) "Ground pins for the device.", 11 VDDA (power) "3.3V common power supply pin for Bank A PCI clocks CLKA.", 13 VSS (power) "Ground pins for the device.", 14 VDDA (power) "3.3V common power supply pin for Bank A PCI clocks CLKA.", 17 VSS (power) "Ground pins for the device.", 19 VSS (power) "Ground pins for the device.", 23 AVDD (power) "Power for internal analog circuitry. This supply should have a separately decoupled current source from VDD.", 26 VSS (power) "Ground pins for the device.", 28 VSS (power) "Ground pins for the device.", 29 AVDD (power) "Power for internal analog circuitry. This supply should have a separately decoupled current source from VDD.", 30 AVDD (power) "Power for internal analog circuitry. This supply should have a separately decoupled current source from VDD.", 32 VSS (power) "Ground pins for the device.", 35 VDDB (power) "3.3V common power supply pin for Bank B PCI clocks CLKB.", 36 VSS (power) "Ground pins for the device.", 38 VDDB (power) "3.3V common power supply pin for Bank B PCI clocks CLKB.", 41 VSS (power) "Ground pins for the device.", 44 VDD (power) "Power supply for internal Core logic.", 45 VSS (power) "Ground pins for the device.", 46 VDD (power) "Power supply for internal Core logic."

## CYW134MOXC
designator U?
Direct Rambus(TM) Clock Generator, 3.3 V, 25 to 400 MHz Output, 0 to 70 degC, 24-pin SOP; Manufacturer: Silicon Labs; PartNumber: CYW134MOXC; Output Format: RSL; Reference Inputs: 1; VDD: 3.3 V; Sub-Family: Clock Generators; DatasheetVersion: Rev. *C; PackageReference: QSOP-24; PackageDescription: 24-Pin Quarter-Size Small-Outline Package, Body 8.65 x 3.9 mm, Pitch 0.635 mm; Supplier 1: Digi-Key; Supplier Part Number 1: CYW134MOXC-ND; Supplier 2: Mouser; Supplier Part Number 2: 634-CYW134MOXC; Output Frequency (MHz): 25 to 400; Mounting Technology: Surface Mount; ComponentLink1Description: Manufacturer URL; ComponentLink1URL: http://www.silabs.com/; ComponentLink2Description: Datasheet; ComponentLink2URL: http://www.silabs.com/Support%20Documents/TechnicalDocs/W134.pdf; ComponentLink3Description: Package Specification; ComponentLink3URL: http://www.silabs.com/Support%20Documents/TechnicalDocs/W134.pdf
footprint SLAB-QSOP-24_A_N (SOP, 24-Leads, Body 8.7x4mm, Pitch 0.635mm, IPC Medium Density)
footprint SLAB-QSOP-24_A_L (SOP, 24-Leads, Body 8.7x4mm, Pitch 0.635mm, IPC High Density)
footprint SLAB-QSOP-24_A_M (SOP, 24-Leads, Body 8.7x4mm, Pitch 0.635mm, IPC Low Density)
part A pins: 1 VDDIR (in) "Reference for REFCLK. Voltage reference for input reference clock.", 2 REFCLK (in) "Reference Clock Input. Reference clock input, normally supplied by a system frequency synthesizer (Cypress W133).", 6 PCLKM (in) "Phase Detector Input. The phase difference between this signal and SYNCLKN is used to synchronize the Rambus Channel Clock with the system clock. Both PCLKM and SYNCLKN are provided by the Gear Ratio Logic in the memory (See Datasheet)", 7 SYNCLKN (in) "Phase Detector Input. The phase difference between this signal and PCLKM is used to synchronize the Rambus Channel Clock with the system clock. Both PCLKM and SYNCLKN are provided by the Gear Ratio Logic in the memory (See Datasheet)", 10 VDDIPD (in) "Reference for Phase Detector. Voltage reference for phase detector inputs and StopB.", 11 STOPB (in) "Clock Output Enable. When this input is driven to active LOW, it disables the differential Rambus Channel clocks.", 12 PWRDNB (in) "Active LOW Power-down. When this input is driven to active LOW, it disables the differential Rambus Channel clocks and places the W134M/W134S in power-down mode.", 14 MULT1 (in) "PLL Multiplier Select. These inputs select the PLL prescaler and feedback dividers to determine the multiply ratio for the PLL for the input REFCLK.", 15 MULT0 (in) "PLL Multiplier Select. These inputs select the PLL prescaler and feedback dividers to determine the multiply ratio for the PLL for the input REFCLK.", 18 CLKB (hiz) "Complementary Output Clock. Differential Rambus Channel clock outputs.", 19 NC "No Connect", 20 CLK (hiz) "Complementary Output Clock. Differential Rambus Channel clock outputs.", 23 S1 (in) "Mode Control Input. These inputs control the operating mode of the W134M/W134S.", 24 S0 (in) "Mode Control Input. These inputs control the operating mode of the W134M/W134S."
part B pins: 3 VDD (power) "Power Connection. Power supply for core logic and output buffers. Connected to 3.3V supply.", 4 GND (power) "Ground Connection. Connect all ground pins to the common system ground plane.", 5 GND (power) "Ground Connection. Connect all ground pins to the common system ground plane.", 8 GND (power) "Ground Connection. Connect all ground pins to the common system ground plane.", 9 VDD (power) "Power Connection. Power supply for core logic and output buffers. Connected to 3.3V supply.", 13 GND (power) "Ground Connection. Connect all ground pins to the common system ground plane.", 16 VDD (power) "Power Connection. Power supply for core logic and output buffers. Connected to 3.3V supply.", 17 GND (power) "Ground Connection. Connect all ground pins to the common system ground plane.", 21 GND (power) "Ground Connection. Connect all ground pins to the common system ground plane.", 22 VDD (power) "Power Connection. Power supply for core logic and output buffers. Connected to 3.3V supply."